# Altium schematic symbol library AltiumLibraries.SchLib: 565 symbols (part 3 of 5)
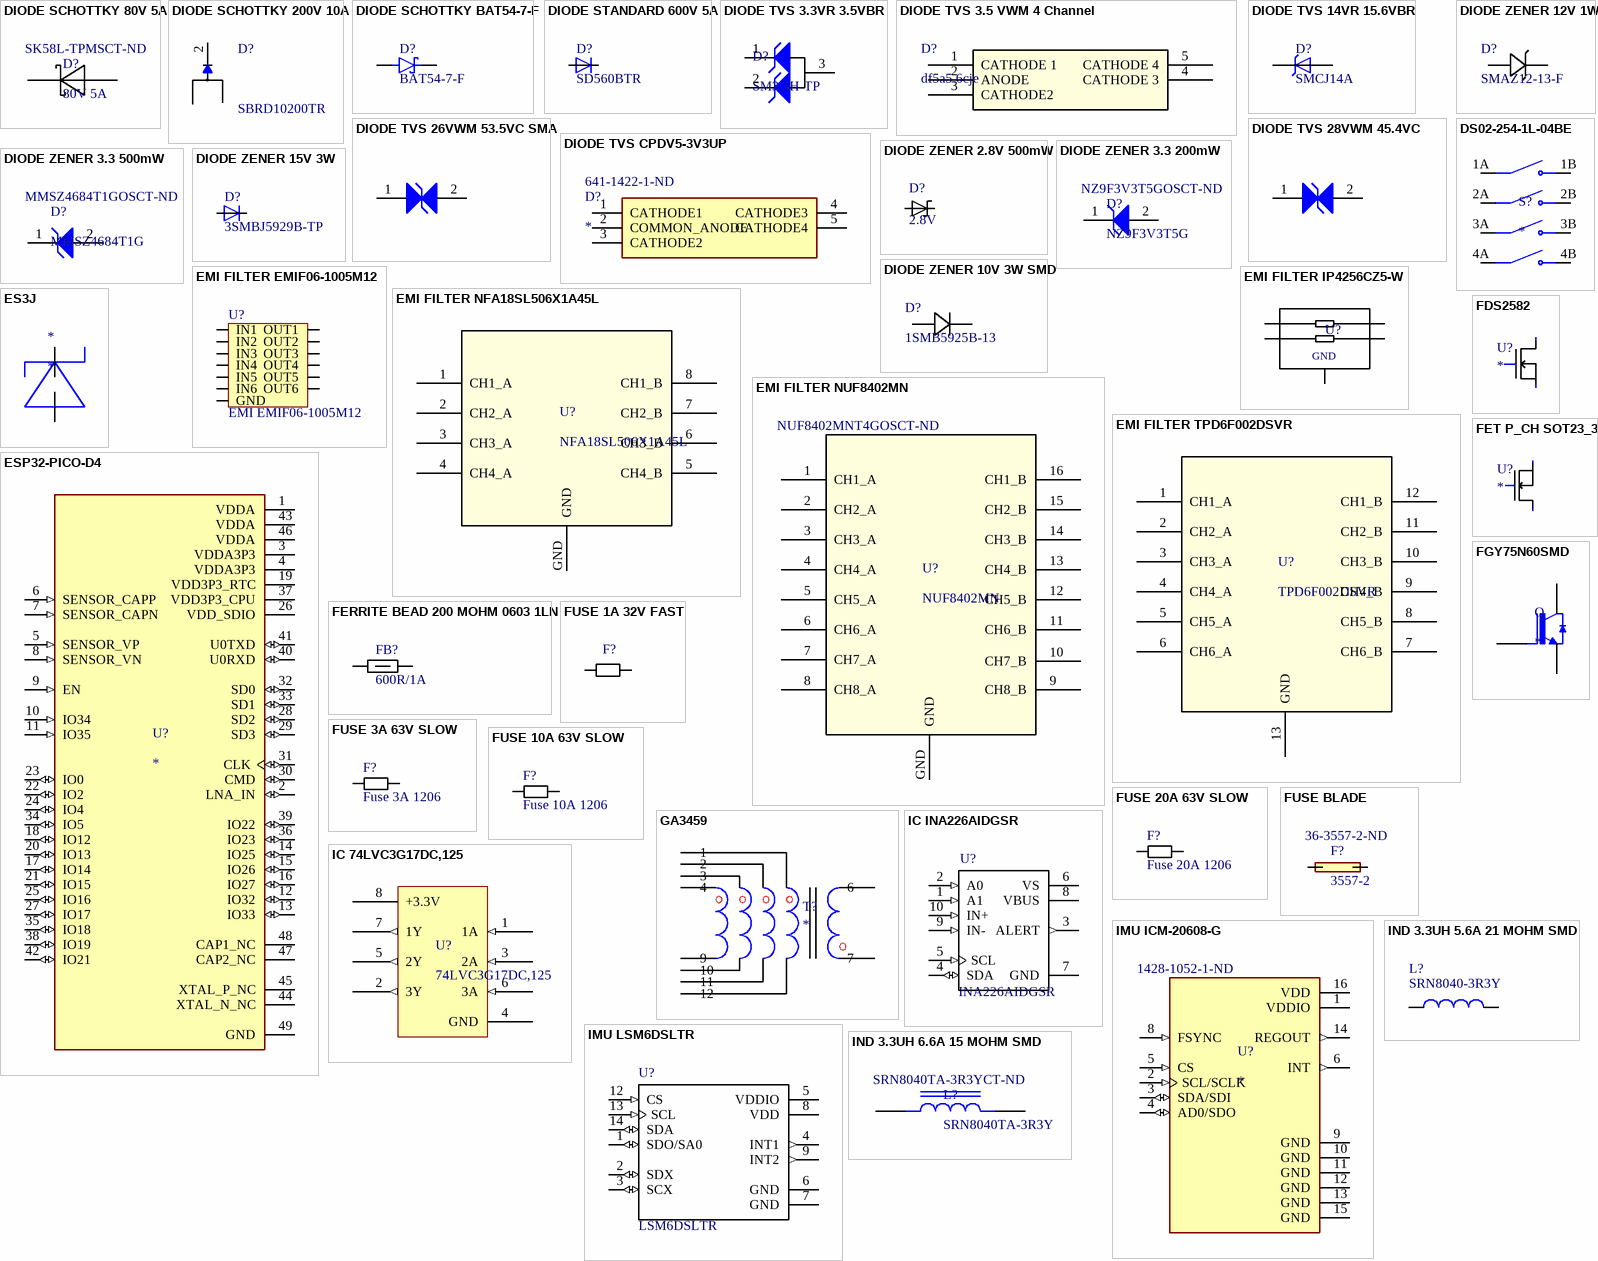
[diagram p17: symbols DIODE SCHOTTKY 80V 5A to IND 3.3UH 6.6A 15 MOHM SMD]

## IC INA226AIDGSR
designator U?, comment INA226AIDGSR
36-V, Bi-Directional, Ultra-High Accuracy, Low-/High-Side, I2C Out Current/Power Monitor w/ Alert 10-VSSOP -40 to 125; MF: Texas Instruments; Price: None; MP: INA226AIDGSR; SnapEDA_Link: https://www.snapeda.com/parts/INA226AIDGSR/Texas%20Instruments/view-part/53552/?ref=snap; Package: MSOP-10 Texas Instruments; Digikey: 296-29034-1-ND; Digikey Link: https://www.digikey.ca/product-detail/en/texas-instruments/INA226AIDGSR/296-29034-1-ND/2687118; Supplier 1: Digi-Key; Supplier Part Number 1: 296-29034-6-ND
footprint 10-VSSOP
pins: 1 A1 (in), 2 A0 (in), 3 ALERT (out), 4 SDA (io), 5 SCL (in), 6 VS (power), 7 GND (power), 8 VBUS (power), 9 IN- (in), 10 IN+ (in)

## IMU ICM-20608-G
designator U?  Supplier Part Number 1: 1428-1052-1-ND
Accelerometer, Gyroscope, 6 Axis Sensor IÂ²C, SPI Output; MF: TDK InvenSense; MP: ICM-20608-G; Package: LGA-16 InvenSense; Purchase-URL: https://pricing.snapeda.com/search/part/ICM-20608-G/?ref=eda; Value: *; Price: None; Availability: Good; SnapEDA_Link: https://www.snapeda.com/parts/ICM-20608-G/TDK%20InvenSense/view-part/196551/?ref=snap; Supplier 1: Digi-Key
footprint PQFN50P300X300X80-16N
pins: 1 VDDIO (power), 2 SCL/SCLK (in), 3 SDA/SDI (io), 4 AD0/SDO (io), 5 CS (in), 6 INT (out), 8 FSYNC (in), 9 GND (power), 10 GND (power), 11 GND (power), 12 GND (power), 13 GND (power), 14 REGOUT (out), 15 GND (power), 16 VDD (power)

## IMU LSM6DSLTR
designator U?, comment LSM6DSLTR
IMU ACCEL/GYRO I2C/SPI 14LGA; MF: STMicroelectronics; SnapEDA_Link: https://www.snapeda.com/parts/LSM6DSLTR/STMicroelectronics/view-part/550517/?ref=snap; MP: LSM6DSLTR; Package: LGA-14 STMicroelectronics; Digikey: https://www.digikey.ca/product-detail/en/stmicroelectronics/LSM6DSLTR/497-16705-1-ND/6192805; Supplier 1: Digi-Key; Supplier Part Number 1: 497-16705-1-ND
footprint LGA-14
pins: 1 SDO/SA0 (io), 2 SDX (io), 3 SCX (io), 4 INT1 (out), 5 VDDIO (power), 6 GND (power), 7 GND (power), 8 VDD (power), 9 INT2 (out), 12 CS (in), 13 SCL (in), 14 SDA (io)

## IND 3.3UH 5.6A 21 MOHM SMD
designator L?, comment SRN8040-3R3Y
3.3µH Semi-Shielded Wirewound Inductor 5.6A 21mOhm Max Nonstandard; MF: Bourns Inc.; Inductance: 3.3uH; MP: SRN8040-3R3Y; Price: None; Package: Nonstandard; ComponentLink1Description: digikey; ComponentLink1URL: https://www.digikey.ca/en/products/detail/bourns-inc/SRU1048-8R2Y/2352912; Digikey: SRN8040-3R3YCT-ND; Digikey Link: https://www.digikey.ca/en/products/detail/bourns-inc/SRN8040-3R3Y/2756131
footprint INDP8279X40M (Precision Wire Wound Inductor, 2-Leads, Body 8.15x7.90mm, IPC Low Density)
pins: 1, 2

## IND 3.3UH 6.6A 15 MOHM SMD
designator L?, comment SRN8040TA-3R3Y  Supplier Part Number 1: SRN8040TA-3R3YCT-ND
3.3 µH Inductor 6.6 A; Package: None; Price: None; Value: *; MP: SRN8040TA-3R3Y; Availability: Unavailable; Supplier 1: Digi-Key
footprint IND_SRN8040TA-3R3Y
pins: 1, 2

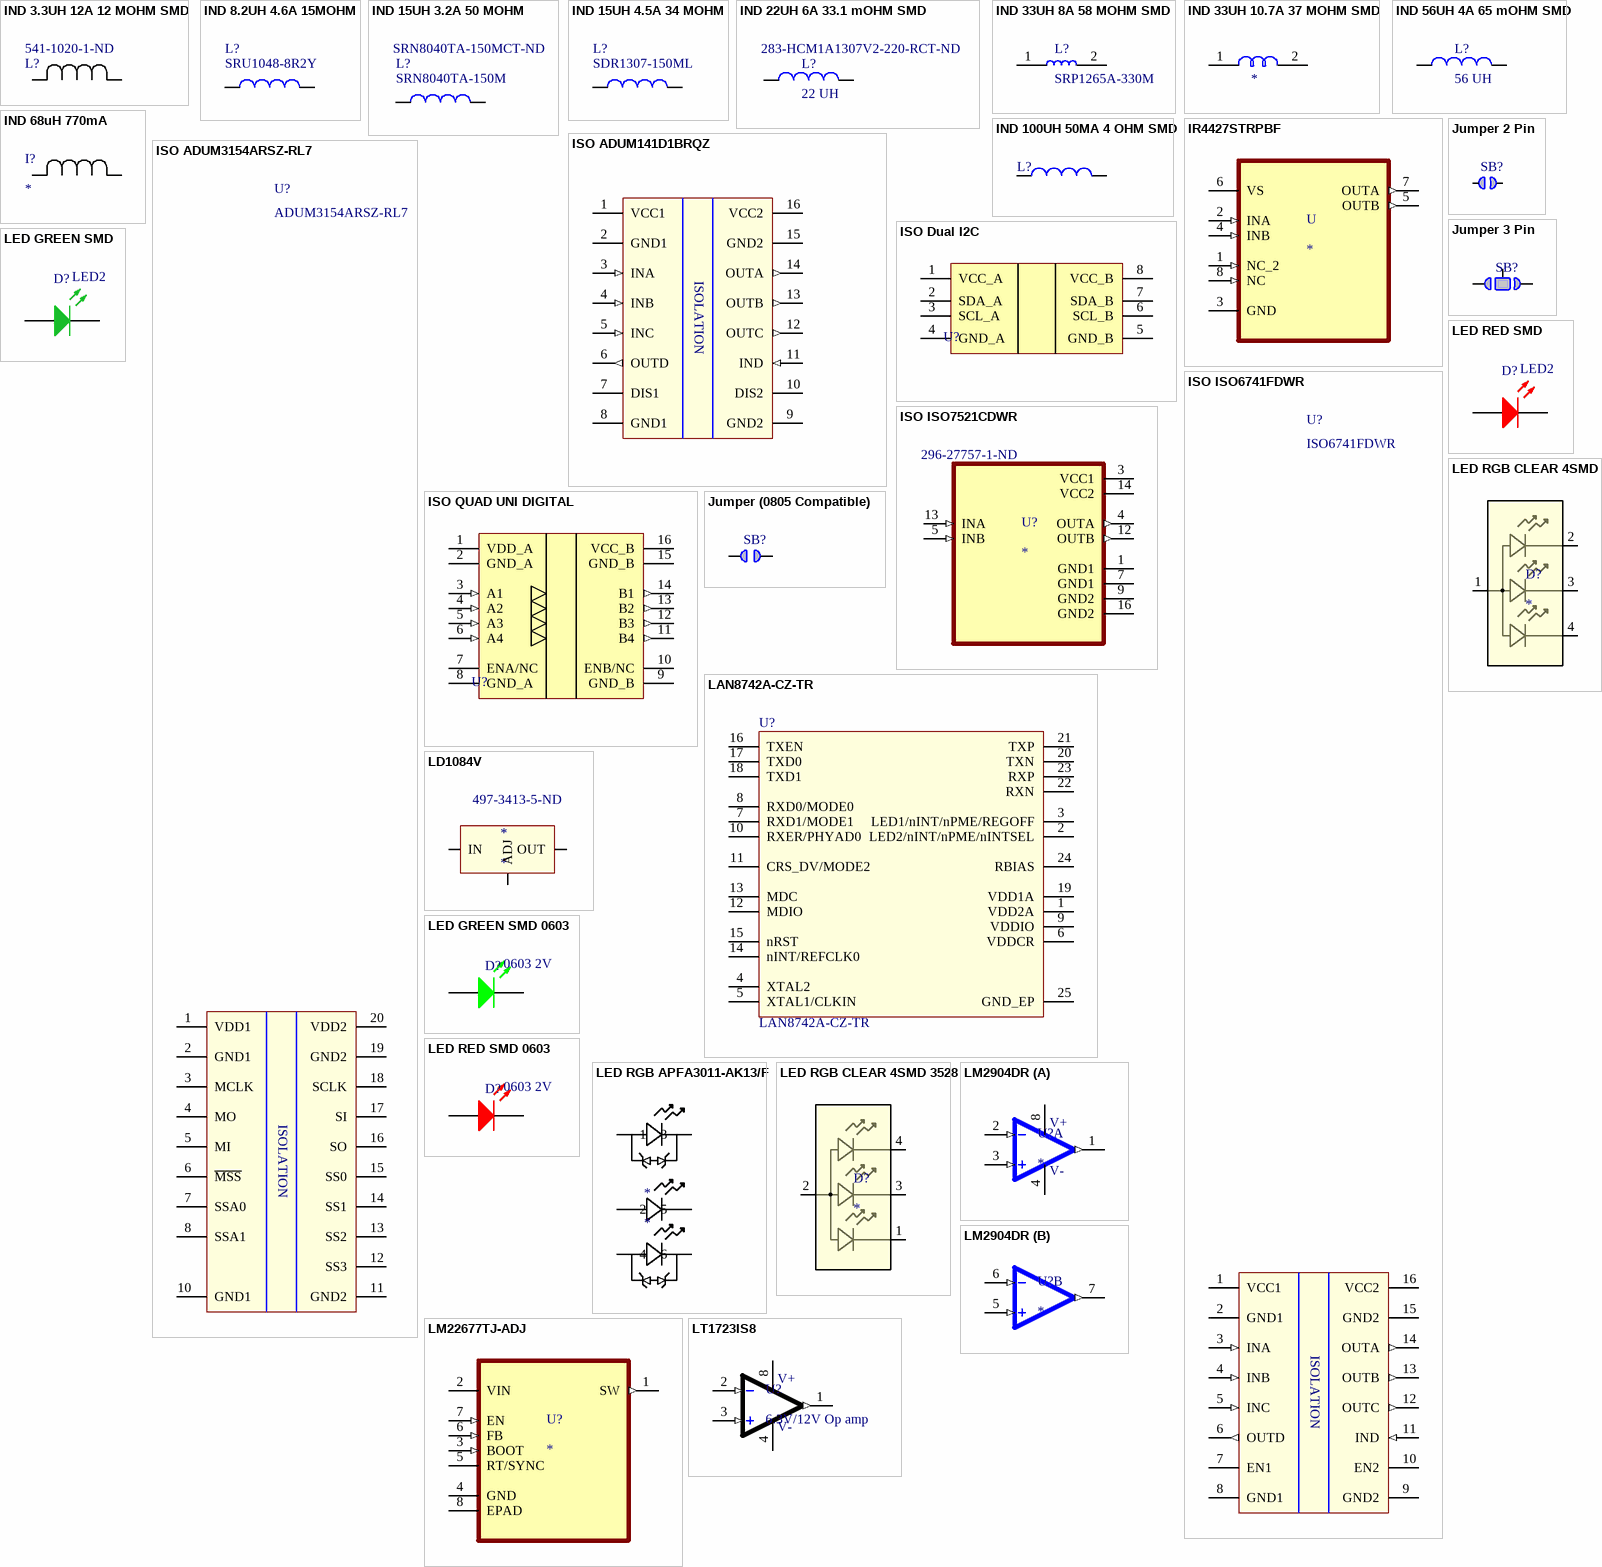
[diagram p6: symbols IND 3.3UH 12A 12 MOHM SMD to LT1723IS8]

## IND 3.3UH 12A 12 MOHM SMD
designator L?, comment Supplier Part Number 1: 541-1020-1-ND  (hidden comment: IHLP5050CEER3R3M01)
3.3uH 12A Shielded Molded Inductor 12mOhm Max; Mfr_Name: Vishay; Type: DEV; Copyright: Copyright (C) 2021 Ultra Librarian. All rights reserved.; Manufacturer_Part_Number: IHLP5050CEER3R3M01; Digi-Key_Part_Number_1: 541-1020-1-ND; Digi-Key_Part_Number_2: 541-1020-2-ND; Digi-Key_Part_Number_3: 541-1020-6-ND; RefDes: RefDes; Supplier 1: Digi-Key
footprint IND_IHLP-5050CE_VIS
pins: 1, 2

## IND 8.2UH 4.6A 15MOHM
designator L?, comment SRU1048-8R2Y
8.2µH Shielded Wirewound Inductor 4.6A 15mOhm Nonstandard; MF: Bourns Inc.; Value: 8.2uH; MP: SRU1048-8R2Y; Price: None; Package: Nonstandard; ComponentLink1Description: digikey; ComponentLink1URL: https://www.digikey.ca/en/products/detail/bourns-inc/SRU1048-8R2Y/2352912; Digikey: SRU1048-8R2YCT-ND; Digikey Link: https://www.digikey.ca/en/products/detail/bourns-inc/SRU1048-8R2Y/2352912
footprint SRU1048-8R2Y
pins: 1, 2

## IND 15UH 3.2A 50 MOHM
designator L?, comment SRN8040TA-150M  Supplier Part Number 1: SRN8040TA-150MCT-ND
15µH Semi-Shielded Wirewound Inductor 2.4A 70mOhm Max Nonstandard; MF: Bourns Inc.; Inductance: 15.0uH; Current - Saturation: 4A; DC Resistance (DCR): 50mOhm; MP: SRN8040TA-150M; Height - Seated (Max): 4.2mm; ComponentLink1Description: digikey; ComponentLink1URL: https://www.digikey.ca/en/products/detail/bourns-inc/SRU1048-8R2Y/2352912; Digikey: SRN8040TA-150MCT-ND; Digikey Link: https://www.digikey.ca/en/products/detail/bourns-inc/SRN8040TA-150M/6155130; Operating Temperature: -40°C ~ 125°C; Size / Dimension: 0.512"" L x 0.512"" W (13.00mm x 13.00mm); Supplier 1: Digi-Key
footprint INDP8279X40M (Precision Wire Wound Inductor, 2-Leads, Body 8.15x7.90mm, IPC Low Density)
pins: 1, 2

## IND 15UH 4.5A 34 MOHM
designator L?, comment SDR1307-150ML
15µH Unshielded Wirewound Inductor 4.5A 34mOhm Max Nonstandard; MF: Bourns Inc.; Inductance: 15.0uH; Current - Saturation: 7.5A; MP: SDR1307-150ML; Height - Seated (Max): 0.287"" (7.30mm); ComponentLink1Description: digikey; ComponentLink1URL: https://www.digikey.ca/en/products/detail/bourns-inc/SRU1048-8R2Y/2352912; Digikey: SDR1307-150MLCT-ND; Digikey Link: https://www.digikey.ca/en/products/detail/bourns-inc/SDR1307-150ML/2561929; DC Resistance (DCR): 34mOhm; Operating Temperature: -40°C ~ 125°C; Size / Dimension: 0.512"" L x 0.512"" W (13.00mm x 13.00mm)
footprint INDP130130X73M (Precision Wire Wound Inductor, 2-Leads, Body 13.00x13.00mm, IPC Low Density)
pins: 1, 2

## IND 22UH 6A 33.1 mOHM SMD
designator L?, comment 22 UH  Supplier Part Number 1: 283-HCM1A1307V2-220-RCT-ND
Automotive Grade High Current Power Inductor 22uH 6A 28.8mOhm 5MHz SRF 2-Pin Surface Mount T/R; Manufacturer: Eaton; Manufacturer Part Number: HCM1A1307V2-220-R; Supplier 1: Digi-Key; RoHS: Yes; Category: Fixed Inductors; Stock 1: 504; Pricing 1: 1=2.16000, 10=1.99600, 25=1.82960, 50=1.56340, 100=1.39710 (USD)
footprint EATON _HCM1A1307V2-220-R (FIXED IND 22UH 6A 33.1 mOHM SMD)
pins: 1, 2

## IND 33UH 8A 58 MOHM SMD
designator L?, comment SRP1265A-330M
33µH Shielded Wirewound Inductor 8A 58mOhm Max Nonstandard; MF: Bourns; SnapEDA_Link: https://www.snapeda.com/parts/SRP1265A-330M/Bourns/view-part/55645/?ref=snap; Availability: Unavailable; Value: *; Package: 1008 Bourns; MP: SRP1265A-330M; Price: None; Supplier 1: Digi-Key; Supplier 2: Newark; Supplier 3: Mouser
footprint IND_SRP1265A-330M
pins: 1, 2

## IND 33UH 10.7A 37 MOHM SMD
designator ?
33µH Shielded Molded Inductor 10.7A 37mOhm; MP: IHLP6767GZER330M11; MF: Vishay Dale; SnapEDA_Link: https://www.snapeda.com/parts/IHLP6767GZER330M11/Vishay%20Dale/view-part/273647/?ref=snap; Digi-Key_Purchase_URL: https://www.digikey.com/product-detail/en/vishay-dale/IHLP6767GZER330M11/541-1289-1-ND/2139415?utm_source=snapeda&utm_medium=aggregator&utm_campaign=symbol; Value: *; Package: Nonstandard Vishay Dale; Digi-Key_Part_Number: 541-1289-1-ND; Supplier 1: Digi-Key; Supplier Part Number 1: 541-1289-1-ND
footprint ER-2
pins: 1, 2

## IND 56UH 4A 65 mOHM SMD
designator L?, comment 56 UH
FIXED IND 56UH 4A 65 MOHM SMD Shielded - Inductor 65mOhm Max Nonstandard -; Value: 56 µH; Digi-Key Part Number: 283-HCM1A1307V2-560-RTR-ND; Current Rating: 4A; DC Resistance: 65mOhm; Supplier 1: Digi-Key; Supplier Part Number 1: 283-HCM1A1307V2-560-RCT-ND
footprint EATON _HCM1A1307V2-560-R (FIXED IND 56UH 4A 65 mOHM SMD)
pins: 1, 2

## IND 68uH 770mA
designator I?
footprint IND 68uH
pins: 1, 2

## IND 100UH 50MA 4 OHM SMD
designator L?
100µH Unshielded Wirewound Inductor 50mA 4Ohm 0805 (2012 Metric); Value: 100uH; MF: Taiyo Yuden; MP: LBR2012T101K; Revision: July-2002: Re-released for DXP Platform.; Digikey: 587-2048-1-ND; Digikey Link: https://www.digikey.ca/product-detail/en/taiyo-yuden/LBR2012T101K/587-2048-1-ND/1788995; Supplier 1: Digi-Key; Supplier Part Number 1: 587-4040-1-ND
footprint 0805
pins: 1, 2

## IR4427STRPBF
designator U
Low-Side Gate Driver IC Non-Inverting 8-SOIC; MF: Infineon Technologies; MP: IR4427STRPBF; Package: SOIC-8 Infineon; Price: None; Availability: Unavailable; SnapEDA_Link: https://www.snapeda.com/parts/IR4427STRPBF/Infineon%20Technologies/view-part/1815787/?ref=snap; Value: *; Supplier 1: Digi-Key; Supplier Part Number 1: IR4427SPBFCT-ND
footprint 8-SOIC
pins: 1 NC_2 (in), 2 INA (in), 3 GND, 4 INB (in), 5 OUTB (out), 6 VS (power), 7 OUTA (out), 8 NC (in)

## ISO ADUM141D1BRQZ
designator U?, comment ADUM141D1BRQZ  Supplier Part Number 1: ADUM141D1BRQZ-RL7
Digital Isolator CMOS 4-CH 150Mbps 16-Pin QSOP T/R; Manufacturer: Analog Devices; Isolated Power: No; Number of Channels: 4; Channel Type: Unidirectional; Propagation Delay: 13ns; Pulse Width Distortion (PWD): 3ns; Supplier 1: Arrow Electronics; Manufacturer Part Number: ADUM141D1BRQZ-RL7; RoHS: Yes; Category: Interface ICs; Stock 1: 341; Pricing 1: 1=3.87700, 10=3.47000, 25=3.26100, 50=3.22900, 100=2.78500, 250=2.67500 (USD); Mount: Surface Mount; Case/Package: SSOP; Number of Pins: 16; Min Operating Temperature: -40°C; Max Operating Temperature: 125°C; Type: General Purpose; Packaging: Tape and Reel; Data Rate: 150Mbps; RoHS Compliant: Yes; ComponentLink1URL: https://www.analog.com/media/en/technical-documentation/data-sheets/ADuM140D_140E_141D_141E_142D_142E.pdf?src-supplier=Digi-Key; ComponentLink1Description: https://www.analog.com/media/en/technical-documentation/data-sheets/ADuM140D_140E_141D_141E_142D_142E.pdf?src-supplier=Digi-Key
footprint SOP64P600X175-16N (SOP, 16-Leads, Body 4.90x3.91mm, Pitch 0.64mm, IPC Medium Density)
footprint SOP64P600X175-16M (SOP, 16-Leads, Body 4.90x3.91mm, Pitch 0.64mm, IPC Low Density)
pins: 1 VCC1 (power), 2 GND1 (power), 3 INA (in), 4 INB (in), 5 INC (in), 6 OUTD (out), 7 DIS1, 8 GND1 (power), 9 GND2 (power), 10 DIS2, 11 IND (in), 12 OUTC (out), 13 OUTB (out), 14 OUTA (out), 15 GND2 (power), 16 VCC2 (power)
text: ISOLATION

## ISO ADUM3154ARSZ-RL7
designator U?, comment ADUM3154ARSZ-RL7
DGTL ISO 3.75KV 4CH SPI 20SSOP; Manufacturer: Analog Devices; Number of Channels: 4; Channel Type: Unidirectional; Data Rate: 34Mbps; Propagation Delay: 25ns; Max Supply Voltage: 5.5V; Min Supply Voltage: 3V; Operating Supply Current: 6.5mA; Max Power Dissipation: 1.4W; Isolated Power: No; Pulse Width Distortion (PWD): 2ns; Supplier 1: Digi-Key; Manufacturer Part Number: ADUM3154ARSZ-RL7; RoHS: Yes; Category: Interface ICs; Stock 1: 226; Pricing 1: 1=6.07000, 10=5.44900, 25=5.15160, 100=4.46470, 250=4.23576 (USD); Mount: Surface Mount; Case/Package: SSOP; Number of Pins: 20; Weight: 0.016oz; Contact Plating: Tin,Matte; Min Operating Temperature: -40°C; Max Operating Temperature: 125°C; Packaging: Tape and Reel; Polarity: Unidirectional; Turn-On Delay Time: 25ns; Package Quantity: 500; Lead Free: Contains Lead; RoHS Compliant: Yes; ComponentLink1URL: https://datasheet.ciiva.com/48509/adum3154-48509240.pdf?src-supplier=Avnet; ComponentLink1Description: https://datasheet.ciiva.com/48509/adum3154-48509240.pdf?src-supplier=Avnet; Supplier Part Number 1: ADUM3154ARSZ-RL7CT-ND
footprint 20-SSOP
pins: 1 VDD1, 2 GND1, 3 MCLK, 4 MO, 5 MI, 6 ~{MSS}, 7 SSA0, 8 SSA1, 10 GND1, 11 GND2, 12 SS3, 13 SS2, 14 SS1, 15 SS0, 16 SO, 17 SI, 18 SCLK, 19 GND2, 20 VDD2
text: ISOLATION

## ISO Dual I2C
designator U?
Digital Isolation Dual Ch Bidirectional I2C; Revision: 1
footprint SOIC127P600X175-8N (SOIC, 8-Leads, Body 4.91x3.95mm, Pitch 1.27mm, IPC Medium Density)
pins: 1 VCC_A, 2 SDA_A, 3 SCL_A, 4 GND_A, 5 GND_B, 6 SCL_B, 7 SDA_B, 8 VCC_B

## ISO ISO6741FDWR
designator U?, comment ISO6741FDWR
ISO GENERAL-PURPOSE, QUAD-CHANNEL, 3/1; Manufacturer: Texas Instruments; Supplier 1: Digi-Key; Manufacturer Part Number: ISO6741FDWR; RoHS: Yes; Category: Integrated Circuits (ICs); Stock 1: 1835; Pricing 1: 1=2.82000, 10=2.53000, 25=2.39200, 100=2.07320, 250=1.96688, 500=1.76488, 1000=1.75525 (USD); RoHS Compliant: Yes; Supplier Part Number 1: 296-ISO6741FDWRCT-ND
footprint 16-SOIC
pins: 1 VCC1 (power), 2 GND1 (power), 3 INA (in), 4 INB (in), 5 INC (in), 6 OUTD (out), 7 EN1, 8 GND1 (power), 9 GND2 (power), 10 EN2, 11 IND (in), 12 OUTC (out), 13 OUTB (out), 14 OUTA (out), 15 GND2 (power), 16 VCC2 (power)
text: ISOLATION

## ISO ISO7521CDWR
designator U?  Supplier Part Number 1: 296-27757-1-ND
General Purpose Digital Isolator 4243Vrms 2 Channel 1Mbps 25kV/µs CMTI 16-SOIC (0.295", 7.50mm Width); MP: ISO7521CDWR; Package: None; Price: None; Value: *; Availability: Unavailable; Supplier 1: Digi-Key
footprint SOIC127P1030X265-16N
pins: 1 GND1 (power), 3 VCC1 (power), 4 OUTA (out), 5 INB (in), 7 GND1 (power), 9 GND2 (power), 12 OUTB (out), 13 INA (in), 14 VCC2 (power), 16 GND2 (power)

## ISO QUAD UNI DIGITAL
designator U?
Digital Isolation Quad Channel.; Revision: 1
footprint SOIC127P600X175-16N (SOIC, 16-Leads, Body 9.90x3.90mm, Pitch 1.27mm, IPC Medium Density)
pins: 1 VDD_A (power), 2 GND_A (power), 3 A1 (in), 4 A2 (in), 5 A3 (in), 6 A4 (in), 7 ENA/NC, 8 GND_A (power), 9 GND_B (power), 10 ENB/NC, 11 B4 (out), 12 B3 (out), 13 B2 (out), 14 B1 (out), 15 GND_B (power), 16 VCC_B (power)

## Jumper 2 Pin
designator SB?  (value not drawn)  (no BOM)
footprint Solder Jumper - 2 PIN NO (Solder jumper 2 pin)
pins: 1, 2

## Jumper 3 Pin
designator SB?  (value not drawn)  (no BOM)
footprint Solder Jumper - 3 Pin NO (Solder jumper, Normally Open)
pins: 1, 2, 3

## Jumper (0805 Compatible)
designator SB?  (value not drawn)  (no BOM)
footprint Solder Jumper (Solder jumper compatible with 0805 passives)
pins: 1, 2

## LAN8742A-CZ-TR
designator U?
LAN8742A-CZ-TR - Small Footprint RMII 10/100 Ethernet, Transceiver with HP Auto-MDIX and flexPWR Technology SQFN-24; MF: Microchip Technology; MP: LAN8742A-CZ-TR; Digikey: LAN8742A-CZ-CT-ND; Digikey Link: https://www.digikey.ca/product-detail/en/microchip-technology/LAN8742A-CZ-TR/LAN8742A-CZ-CT-ND/8256089; Supplier 1: Digi-Key; Supplier Part Number 1: LAN8742A-CZ-CT-ND
footprint 24-QFN (4x4)
pins: 1 VDD2A, 2 LED2/nINT/nPME/nINTSEL, 3 LED1/nINT/nPME/REGOFF, 4 XTAL2, 5 XTAL1/CLKIN, 6 VDDCR, 7 RXD1/MODE1, 8 RXD0/MODE0, 9 VDDIO, 10 RXER/PHYAD0, 11 CRS_DV/MODE2, 12 MDIO, 13 MDC, 14 nINT/REFCLK0, 15 nRST, 16 TXEN, 17 TXD0, 18 TXD1, 19 VDD1A, 20 TXN, 21 TXP, 22 RXN, 23 RXP, 24 RBIAS, 25 GND_EP

## LD1084V
designator *  Supplier Part Number 1: 497-3413-5-ND
STMICROELECTRONICS         LD1084V            LDO Voltage Regulator, Adjustable, 30V in, 1.3V drop, 5A out, TO-220-3; Interface: SPI,Serial; Access Time: 60ns; Output Voltage: 28V; Number of Outputs: 1; Output Voltage Accuracy: 1%; Max Frequency: 5MHz; Input Bias Current: 5mA; Reference Voltage: 1.25V; Polarity: Positive; Quiescent Current: 10mA; Min Output Voltage: 2.5V; Density: 128Kb; Min Input Voltage: 4.25V; Supplier 1: Digi-Key; Manufacturer: STMicroelectronics; Manufacturer Part Number: LD1084V; RoHS: Yes; Category: Voltage Regulators - Linear; Stock 1: 3520; Pricing 1: 1=1.30000, 10=1.16200, 25=1.10320, 100=0.84710, 250=0.74860, 500=0.70920, 1000=0.55160, 2500=0.52402, 5000=0.50432 (USD); Mount: Through Hole; Case/Package: TO; Number of Pins: 3; Min Operating Temperature: -40°C; Max Operating Temperature: 125°C; Dropout Voltage: 1.3V; Package Quantity: 50; Max Input Voltage: 30V; Output Current: 5A; Packaging: Rail/Tube; Max Output Current: 5A; Number of Regulators: 1; Output Type: Adjustable; Accuracy: 1%; Length: 10.4mm; Height: 9.15mm; Width: 4.6mm; Radiation Hardening: No; REACH SVHC: No SVHC; Lead Free: Lead Free; ComponentLink1URL: https://datasheet.ciiva.com/15111/getdatasheetpartid-64852-15111283.pdf?src-supplier=Verical; ComponentLink1Description: https://datasheet.ciiva.com/15111/getdatasheetpartid-64852-15111283.pdf?src-supplier=Verical; ComponentLink2URL: https://datasheet.ciiva.com/27052/1390160-27052164.pdf?src-supplier=Jameco; ComponentLink2Description: https://datasheet.ciiva.com/27052/1390160-27052164.pdf?src-supplier=Jameco; ComponentLink3URL: https://datasheet.ciiva.com/1511/1786011-1511541.pdf?src-supplier=Element14; ComponentLink3Description: https://datasheet.ciiva.com/1511/1786011-1511541.pdf?src-supplier=Element14; ComponentLink4URL: https://datasheet.ciiva.com/16496/cd00003086-16496021.pdf?src-supplier=Future+Electronics; ComponentLink4Description: https://datasheet.ciiva.com/16496/cd00003086-16496021.pdf?src-supplier=Future+Electronics; ComponentLink5URL: https://datasheet.ciiva.com/2045/cd00003086-2045335.pdf?src-supplier=Digi-Key; ComponentLink5Description: https://datasheet.ciiva.com/2045/cd00003086-2045335.pdf?src-supplier=Digi-Key
footprint TO-220-3
pins: 1 IN, 2 ADJ, 3 OUT

## LED GREEN SMD
designator D?, comment LED2
Typical RED, GREEN, YELLOW, AMBER GaAs LED; Voltage - Forward (Vf) (Typ): 2V; Lens Transparency: Clear; Current - Test: 20mA; Package: 1206; Color: Green
footprint 3.2X1.6X1.1 (SMT LED; 2 Flat Leads)
pins: 1 A, 2 K

## LED GREEN SMD 0603
designator D?, comment 0603 2V
LED Uni-Color Green 574nm 2-Pin Chip LED T/R; Manufacturer: Vishay Lite-On; Manufacturer Part Number: LTST-C190KGKT; Lens Color: Colorless; Lens Style: Diffused,Colorless,Rectangular,Clear; Luminous Intensity: 35mcd; Viewing Angle: 130°; Dominant Wavelength: 571nm; Test Current: 20mA; Lens Transparency: Clear; Forward Current: 30mA; Power Rating: 75mW; Number of Elements: 1; Reverse Voltage: 5V; Supplier 1: Digi-Key; RoHS: Yes; Category: LEDs; Stock 1: 927689; Pricing 1: 1=0.24000, 10=0.13200, 100=0.06110, 500=0.05640, 1000=0.04418, 2000=0.04324 (USD); Mount: Surface Mount; Case/Package: 0603; Number of Pins: 2; Color: Green; Case Code (Metric): 1608; Case Code (Imperial): 0603; Min Operating Temperature: -55°C; Max Operating Temperature: 85°C; Forward Voltage: 2V; Packaging: Tape and Reel; Package Quantity: 1; Wavelength: 574nm; Illumination Color: Green; Power Dissipation: 75mW; Number of LEDs: 1; Length: 1.6mm; Width: 0.8mm; Height: 0.8mm; Depth: 0.8mm; Radiation Hardening: No; Lead Free: Lead Free; RoHS Compliant: Yes; ComponentLink1URL: https://datasheet.ciiva.com/11774/0900766b80dc02a8-11774060.pdf?src-supplier=RSComponents; ComponentLink1Description: https://datasheet.ciiva.com/11774/0900766b80dc02a8-11774060.pdf?src-supplier=RSComponents; ComponentLink2URL: https://datasheet.ciiva.com/12403/100-ltst-c190kgkt-63268-12403899.pdf?src-supplier=Mouser; ComponentLink2Description: https://datasheet.ciiva.com/12403/100-ltst-c190kgkt-63268-12403899.pdf?src-supplier=Mouser; ComponentLink3URL: https://datasheet.ciiva.com/15117/getdatasheetpartid-141494-15117731.pdf?src-supplier=Verical; ComponentLink3Description: https://datasheet.ciiva.com/15117/getdatasheetpartid-141494-15117731.pdf?src-supplier=Verical; ComponentLink4URL: https://datasheet.ciiva.com/2109/s-110-ltst-c190kgkt-2109989.pdf?src-supplier=Digi-Key; ComponentLink4Description: https://datasheet.ciiva.com/2109/s-110-ltst-c190kgkt-2109989.pdf?src-supplier=Digi-Key; ComponentLink5URL: https://datasheet.ciiva.com/2109/s-110-ltst-c190kgkt-2109988.pdf?src-supplier=Digi-Key; ComponentLink5Description: https://datasheet.ciiva.com/2109/s-110-ltst-c190kgkt-2109988.pdf?src-supplier=Digi-Key; ComponentLink6URL: https://datasheet.ciiva.com/2109/s-110-ltst-c190kgkt-2109990.pdf?src-supplier=Digi-Key; ComponentLink6Description: https://datasheet.ciiva.com/2109/s-110-ltst-c190kgkt-2109990.pdf?src-supplier=Digi-Key; Supplier Part Number 1: 160-1435-1-ND
footprint 0603 - LED
pins: 1 A, 2 K

## LED RED SMD
designator D?, comment LED2
Typical RED, GREEN, YELLOW, AMBER GaAs LED; Lens Color: Colorless; Voltage - Forward (Vf) (Typ): 1.7V; Current - Test: 20mA; Lens Transparency: Clear; Color: Red; Package: 1206
footprint 3.2X1.6X1.1 (SMT LED; 2 Flat Leads)
pins: 1 A, 2 K

## LED RED SMD 0603
designator D?, comment 0603 2V
0603 red led alingap 631nm-639nm water clear 18-180mcd 130d; Manufacturer: Vishay Lite-On; Manufacturer Part Number: LTST-C190KRKT; Lens Color: Colorless; Luminous Intensity: 54mcd; Forward Current: 30mA; Viewing Angle: 130°; Forward Voltage: 2.4V; Lens Style: Diffused,Colorless,Clear,Rectangular; Power Rating: 75mW; Dominant Wavelength: 631nm; Test Current: 20mA; Number of Elements: 1; Wavelength: 639nm; Reverse Voltage: 5V; Supplier 1: Digi-Key; RoHS: Yes; Category: LEDs; Stock 1: 952868; Pricing 1: 1=0.24000, 10=0.13200, 100=0.06110, 500=0.05640, 1000=0.04418, 2000=0.04324 (USD); Mount: Surface Mount; Case/Package: 0603; Number of Pins: 2; Color: Red; Case Code (Metric): 1608; Case Code (Imperial): 0603; Min Operating Temperature: -55°C; Max Operating Temperature: 85°C; Packaging: Tape and Reel; Package Quantity: 1; Illumination Color: Red; Lens Transparency: Clear; Power Dissipation: 75mW; Number of LEDs: 1; Length: 1.6mm; Width: 0.8mm; Height: 0.8mm; Depth: 0.8mm; Radiation Hardening: No; Lead Free: Lead Free; RoHS Compliant: Yes; ComponentLink1URL: https://datasheet.ciiva.com/19482/1260381-19482354.pdf?src-supplier=Jameco; ComponentLink1Description: https://datasheet.ciiva.com/19482/1260381-19482354.pdf?src-supplier=Jameco; ComponentLink2URL: https://datasheet.ciiva.com/11774/0900766b80dc02a9-11774043.pdf?src-supplier=RSComponents; ComponentLink2Description: https://datasheet.ciiva.com/11774/0900766b80dc02a9-11774043.pdf?src-supplier=RSComponents; ComponentLink3URL: https://datasheet.ciiva.com/12403/100-ltst-c190krkt-59805-12403895.pdf?src-supplier=Mouser; ComponentLink3Description: https://datasheet.ciiva.com/12403/100-ltst-c190krkt-59805-12403895.pdf?src-supplier=Mouser; ComponentLink4URL: https://datasheet.ciiva.com/16427/ltst-c190krkt-16427674.pdf?src-supplier=Future+Electronics; ComponentLink4Description: https://datasheet.ciiva.com/16427/ltst-c190krkt-16427674.pdf?src-supplier=Future+Electronics; ComponentLink5URL: https://datasheet.ciiva.com/15117/getdatasheetpartid-57395-15117240.pdf?src-supplier=Verical; ComponentLink5Description: https://datasheet.ciiva.com/15117/getdatasheetpartid-57395-15117240.pdf?src-supplier=Verical; ComponentLink6URL: https://datasheet.ciiva.com/2109/s-110-ltst-c190krkt-2109992.pdf?src-supplier=Digi-Key; ComponentLink6Description: https://datasheet.ciiva.com/2109/s-110-ltst-c190krkt-2109992.pdf?src-supplier=Digi-Key; ComponentLink7URL: https://datasheet.ciiva.com/2109/s-110-ltst-c190krkt-2109991.pdf?src-supplier=Digi-Key; ComponentLink7Description: https://datasheet.ciiva.com/2109/s-110-ltst-c190krkt-2109991.pdf?src-supplier=Digi-Key; ComponentLink8URL: https://datasheet.ciiva.com/2109/s-110-ltst-c190krkt-2109993.pdf?src-supplier=Digi-Key; ComponentLink8Description: https://datasheet.ciiva.com/2109/s-110-ltst-c190krkt-2109993.pdf?src-supplier=Digi-Key; ComponentLink9URL: https://datasheet.ciiva.com/26937/getdatasheetpartid-631582-26937958.pdf?src-supplier=Verical; ComponentLink9Description: https://datasheet.ciiva.com/26937/getdatasheetpartid-631582-26937958.pdf?src-supplier=Verical; Supplier Part Number 1: 160-1436-1-ND
footprint 0603 - LED2
pins: 1 A, 2 K

## LED RGB APFA3011-AK13/F
designator *
ComponentLink1Description: Digikey; ComponentLink1URL: https://www.digikey.com/en/products/detail/kingbright/APFA3011-AK13-F/7597102
footprint LED RGB APFA3011-AK13/F
pins: 1, 2, 3, 4, 5, 6

## LED RGB CLEAR 4SMD
designator D?
LED RGB No Lead
footprint LED RGB APHF1608SEEQBDZGKC_KNB-L
pins: 1, 2, 3, 4

## LED RGB CLEAR 4SMD 3528
designator D?
LED RGB No Lead / AAA3528
footprint LED 4pin 3.5 x 2.8 (LED 3 COLOR 3.5mm x 2.8mm)
pins: 1, 2, 3, 4

## LM2904DR
designator U?
General Purpose Amplifier 2 Circuit 8-SOIC; MF: Texas Instruments; MP: LM2904DR; Package: SOIC-8 Texas Instruments; Availability: Unavailable; Value: *; SnapEDA_Link: https://www.snapeda.com/parts/LM2904DR/Texas%20Instruments/view-part/105730/?ref=snap; Price: None; Supplier 1: Digi-Key; Supplier Part Number 1: 296-14596-1-ND
footprint 8-SOIC
part A pins: 1 OUT1 (out), 2 IN1- (in), 3 IN1+ (in), 4 V- (power), 8 V+ (power)
part B pins: 5 IN2+ (in), 6 IN2- (in), 7 OUT2 (out)

## LM22677TJ-ADJ
designator U?
3A SIMPLE SWITCHERÂ®, Step-Down Voltage Regulator; MP: LM22677TJ-ADJ; Package: None; Price: None; Value: *; Availability: Unavailable
footprint TO127P1435X210-8N
pins: 1 SW (out), 2 VIN (power), 3 BOOT (in), 4 GND, 5 RT/SYNC, 6 FB (in), 7 EN (in), 8 EPAD

## LT1723IS8
designator U?, comment 6.3V/12V Op amp
IC OPAMP VFB 200MHZ 8SO; Manufacturer: Analog Devices / Linear Technology; Manufacturer Part Number: LT1723IS8#PBF; Min Dual Supply Voltage: 1.15V; Operating Supply Voltage: 3V; Max Dual Supply Voltage: 6.3V; Voltage Gain: 80dB; Slew Rate: 70V/µs; Max Supply Voltage: 12.6V; Min Supply Voltage: 4.6V; Number of Circuits: 2; Input Bias Current: 40nA; Input Offset Voltage (Vos): 400uV; Operating Supply Current: 3.7mA; Output Current per Channel: 50mA; Power Supply Rejection Ratio (PSRR): 78dB; Max Supply Current: 10mA; Supplier 1: Digi-Key; RoHS: Yes; Category: Amplifiers - Op Amps, Buffer, Instrumentation; Stock 1: 290; Case/Package: SOIC; Number of Pins: 8; Min Operating Temperature: -40°C; Max Operating Temperature: 85°C; Package Quantity: 100; Dual Supply Voltage: 3V; Common Mode Rejection Ratio: 80dB; Packaging: Rail/Tube; Nominal Gain Bandwidth Product: 200MHz; Gain Bandwidth Product: 200MHz; Number of Elements: 2; Number of Channels: 2; Length: 5mm; Height: 1.5mm; Width: 3.99mm; Lead Free: Lead Free; ComponentLink1URL: https://datasheet.ciiva.com/19464/1739931-19464951.pdf?src-supplier=Jameco; ComponentLink1Description: https://datasheet.ciiva.com/19464/1739931-19464951.pdf?src-supplier=Jameco; ComponentLink2URL: https://datasheet.ciiva.com/1802/1627-1802924.pdf?src-supplier=Digi-Key; ComponentLink2Description: https://datasheet.ciiva.com/1802/1627-1802924.pdf?src-supplier=Digi-Key; Supplier Part Number 1: LT1723IS8#PBF-ND
footprint 8-SOIC
pins: 1 OUT1 (out), 2 IN1- (in), 3 IN1+ (in), 4 V- (power), 8 V+ (power)

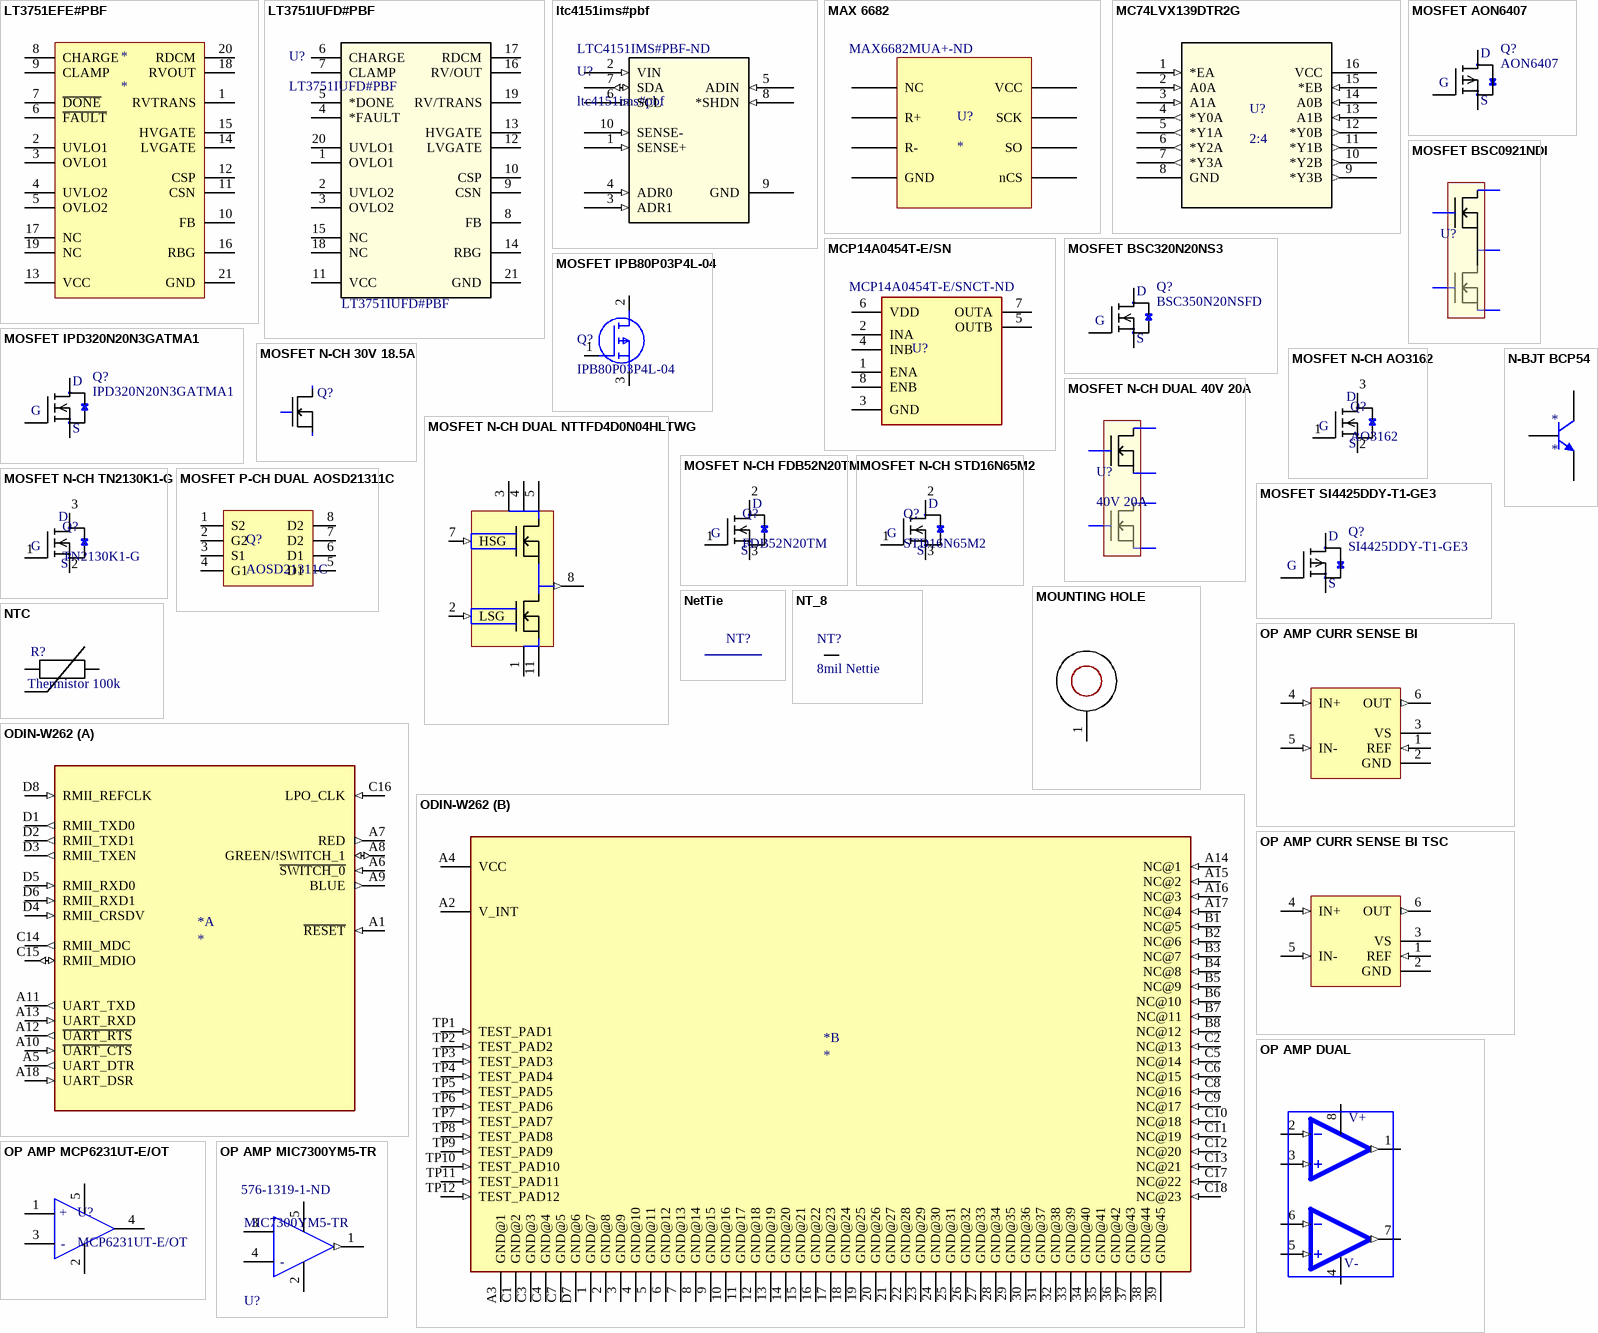
[diagram p7: symbols LT3751EFE#PBF to OP AMP MIC7300YM5-TR]

## LT3751EFE#PBF
designator *
Controller to 20-Pin TSSOP EP; Manufacturer: Analog Devices / Linear Technology; Manufacturer Part Number: LT3751EFE#PBF; Output Voltage: 500V; Output Current: 150mA; Max Input Voltage: 24V; Min Supply Voltage: 4.75V; Number of Outputs: 1; Operating Supply Current: 5.5mA; Supplier 1: Digi-Key; RoHS: Yes; Category: Voltage Regulators - Switching; Stock 1: 1231; Pricing 1: 1=9.26000, 25=6.14640, 100=5.08200, 250=4.82792, 500=4.71900 (USD); Case/Package: TSSOP; Number of Pins: 20; Min Operating Temperature: -40°C; Max Operating Temperature: 125°C; Package Quantity: 74; Packaging: Rail/Tube; Termination: SMD/SMT; Max Supply Voltage: 24V; Radiation Hardening: No; REACH SVHC: No SVHC; ComponentLink1URL: https://datasheet.ciiva.com/15104/getdatasheetpartid-472813-15104438.pdf?src-supplier=Verical; ComponentLink1Description: https://datasheet.ciiva.com/15104/getdatasheetpartid-472813-15104438.pdf?src-supplier=Verical; ComponentLink2URL: https://datasheet.ciiva.com/31429/1692507-31429494.pdf?src-supplier=Farnell; ComponentLink2Description: https://datasheet.ciiva.com/31429/1692507-31429494.pdf?src-supplier=Farnell; ComponentLink3URL: https://datasheet.ciiva.com/1964/27024-1964843.pdf?src-supplier=Digi-Key; ComponentLink3Description: https://datasheet.ciiva.com/1964/27024-1964843.pdf?src-supplier=Digi-Key
footprint LT-FE-20-EPV-CB_L (SOP, 20-Leads, Body 6.6x4.5mm, Pitch 0.65mm, Thermal Pad 3.86x2.74mm, IPC High Density)
pins: 1 RVTRANS "Transformer Supply Sense Pin. Connect a resistor between the RVTRANS pin and the VTRANS supply. Refer to Table 2 for proper sizing of the RVTRANS resistor. The minimum operation voltage for VTRANS is 4.75V.", 2 UVLO1 "VTRANS Undervoltage Lockout Pin. Senses when VTRANS drops below: VUVLO1 = 1.225+ 50uA •RUVLO1 and trips the F\A\U\L\T\ latch low, disabling switching. After VTRANS rises above VUVLO1, toggling the CHARGE pin reactivate(See Datasheet)", 3 OVLO1 "VTRANS Overvoltage Lockout Pin. Senses when VTRANS rises above: VOVLO1 = 1.225+ 50uA •ROVLO1 and trips the F\A\U\L\T\ latch low, disabling switching. After VTRANS drops below VOVLO1, toggling the CHARGE pin reactivate(See Datasheet)", 4 UVLO2 "VCC Undervoltage Lockout Pin. Senses when VCC drops below: VUVLO2 = 1.225+ 50uA •RUVLO2 and trips the F\A\U\L\T\ latch low, disabling switching. After VCC rises above VUVLO2, toggling the CHARGE pin reactivates switching.", 5 OVLO2 "VCC Overvoltage Lockout Pin. Senses when VCC rises above: VOVLO2 = 1.225+ 50uA •ROVLO2 and trips the F\A\U\L\T\ latch low, disabling switching. After VCC drops below VOVLO2, toggling the CHARGE pin reactivates switching.", 6 ~{FAULT} "Open Collector Indication Pin. When either VTRANS or VCC exceeds the user-selected voltage range, or an internal UVLO condition occurs, a transistor turns on. The part will stop switching. This pin needs a proper pull-up (See Datasheet)", 7 ~{DONE} "Open Collector Indication Pin. When the target output voltage (charge mode) is reached or the F\A\U\L\T\ pin goes low, a transistor turns on. This pin needs a proper pull-up resistor or current source.", 8 CHARGE "Charge Pin. Initiates a new charge cycle (charge mode) or enables the part (regulation mode) when driven higher than 1.5V. Bring this pin below 0.3V to discontinue charging and put the part into shutdown. Turn-on ramp rates (See Datasheet)", 9 CLAMP "Internal Clamp Voltage Selection Pin. Tie this pin to VCC to activate the internal 5.6V gate driver clamp. Tie this pin to ground to activate the internal 10.5V gate driver clamp.", 10 FB "Feedback Regulation Pin. Use this pin to achieve low noise voltage regulation. FB is internally regulated to 1.22V when a resistive divider is tied from this pin to the output. FB pin should not float. Tie FB pin to either a (See Datasheet)", 11 CSN "Negative Current Sense Pin. Senses external NMOS source current. Connect to local RSENSE ground connection for proper Kelvin sensing. The current limit is set by 106mV/RSENSE.", 12 CSP "Positive Current Sense Pin. Senses NMOS source current. Connect the NMOS source terminal and the current sense resistor to this pin. The current limit is fixed at 106mV/RSENSE in charge mode. The current limit can be reduced (See Datasheet)", 13 VCC "Input Supply Pin. Must be locally bypassed with high grade (X5R or better) ceramic capacitor. The minimum operating voltage for VCC is 4.75V.", 14 LVGATE "Low Voltage Gate Pin. Connect the NMOS gate terminal to this pin when operating VCC below 8V. The internal gate driver will drive the voltage to the VCC rail. When operating VCC higher than 8V, tie this pin directly to VCC.", 15 HVGATE "High Voltage Gate Pin. Connect NMOS gate terminal to this pin for all VCC operating voltages. Internal gate driver will drive the voltage to within VCC -2V during each switch cycle.", 16 RBG "Bias Generation Pin. Generates a bias current set by 0.98V/RBG. Select RBG to achieve desired resistance for RDCM, RVOUT, and RVTRANS.", 17 NC "No Connection.", 18 RVOUT "Output Voltage Sense Pin. Develops a current proportional to the output capacitor voltage.", 19 NC "No Connection.", 20 RDCM "Discontinuous Mode Sense Pin. Senses when the external NMOS drain is equal to 20uA ?RDCM + VTRANS and initiates the next switch cycle. Place a resistor equal to 0.45 times the resistor on the RVTRANS pin between this pi(See Datasheet)", 21 GND "Ground. Tie directly to local ground plane."

## LT3751IUFD#PBF
designator U?
Photoflash Capacitor Charger PMIC 20-QFN (4x5); Mfr_Name: Analog Devices / Linear Technology; Copyright: Copyright (C) 2021 Ultra Librarian. All rights reserved.; Manufacturer_Part_Number: lt3751iufd#pbf; Digi-Key_Part_Number_1: LT3751IUFD#PBF-ND; RefDes: RefDes; Type: DEV; Supplier 1: Digi-Key; Supplier 2: Arrow Electronics; Supplier 3: Mouser; Supplier Part Number 2: LT3751IUFD#PBF
footprint QFN-20_UFD_LIT
footprint QFN-20_UFD_LIT-L
footprint QFN-20_UFD_LIT-M
pins: 1 OVLO1, 2 UVLO2, 3 OVLO2, 4 *FAULT, 5 *DONE, 6 CHARGE, 7 CLAMP, 8 FB, 9 CSN, 10 CSP, 11 VCC (power), 12 LVGATE, 13 HVGATE, 14 RBG, 15 NC, 16 RV/OUT, 17 RDCM, 18 NC, 19 RV/TRANS, 20 UVLO1, 21 GND

## ltc4151ims#pbf
designator U?  Supplier Part Number 1: LTC4151IMS#PBF-ND
Power Supply Controller Power Supply Monitor 10-MSOP; Mfr_Name: Analog Devices / Linear Technology; Copyright: Copyright (C) 2021 Ultra Librarian. All rights reserved.; Manufacturer_Part_Number: ltc4151ims#pbf; Digi-Key_Part_Number_1: LTC4151IMS#PBF-ND; RefDes: RefDes; Type: DEV; Supplier 1: Digi-Key
footprint MSOP-10_MS_LIT
footprint MSOP-10_MS_LIT-L
footprint MSOP-10_MS_LIT-M
pins: 1 SENSE+ (in), 2 VIN (in), 3 ADR1 (in), 4 ADR0 (in), 5 ADIN (in), 6 SCL (in), 7 SDA (io), 8 *SHDN (in), 9 GND (power), 10 SENSE- (in)

## MAX 6682
designator U?  Supplier Part Number 1: MAX6682MUA+-ND
MAX 6685 Thermistor - SPI converter, 8bit; Supplier 1: Digi-Key
footprint 8-MSOP
pins: 1 NC, 2 R+, 3 R-, 4 GND, 5 nCS, 6 SO, 7 SCK, 8 VCC

## MC74LVX139DTR2G
designator U?, comment 2:4
2-3.6V Dual 2-to-8 Decoder; MF: onsemi; Package: TSSOP-16; Vin: 2-3.6V; Supplier: Mouser; Link: https://www.mouser.ca/ProductDetail/onsemi/MC74LVX139DTR2G?qs=YOLdObVcOZlxCYeV3EwYHQ%3D%3D
footprint TSSOP-16
pins: 1 *EA (in), 2 A0A (in), 3 A1A (in), 4 *Y0A (out), 5 *Y1A (out), 6 *Y2A (out), 7 *Y3A (out), 8 GND (power), 9 *Y3B (out), 10 *Y2B (out), 11 *Y1B (out), 12 *Y0B (out), 13 A1B (in), 14 A0B (in), 15 *EB (in), 16 VCC (power)

## MCP14A0454T-E/SN
designator U?  Supplier Part Number 1: MCP14A0454T-E/SNCT-ND  (hidden comment: *)
Low-Side Gate Driver IC Non-Inverting 8-SOIC; Supplier 1: Digi-Key
footprint 8-SOIC
pins: 1 ENA, 2 INA, 3 GND, 4 INB, 5 OUTB, 6 VDD, 7 OUTA, 8 ENB

## MOSFET AON6407
designator Q?, comment AON6407
MOSFET P-CH 30V 32A 8DFN; MF: Alpha & Omega Semiconductor Inc.; Package: 8-PowerSMD; MP: AON6407; Digikey: 785-1421-1-ND; Digikey Link: https://www.digikey.ca/product-detail/en/alpha-omega-semiconductor-inc/AON6407/785-1421-1-ND/3466800; Supplier 1: Digi-Key; Supplier Part Number 1: 785-1421-1-ND
footprint 8-PowerSMD
pins: D, G, S

## MOSFET BSC320N20NS3
designator Q?, comment BSC350N20NSFD
MOSFET N-CH 36A 200V; MF: Infineon; Package: 8-PowerTDFN; Digikey: BSC320N20NS3GATMA1CT-ND; Digikey Link: https://www.digikey.ca/en/products/detail/infineon-technologies/BSC320N20NS3GATMA1/2337851; Supplier 1: Digi-Key; Supplier Part Number 1: BSC320N20NS3GATMA1CT-ND
footprint 8-PowerSMD
pins: D, G, S

## MOSFET BSC0921NDI
designator U?
MOSFET N+N 30V 17A; MF: Infineon Technologies; MF P/N: BSC0921NDI; Supplier 1: Digi-Key; Supplier Part Number 1: BSC0921NDIATMA1CT-ND
footprint PG-TISON-8-2 (Infineon TISON Dual Mosfet Merged S1D2)
pins: D1, G1, G2, S1D2, S2

## MOSFET IPB80P03P4L-04
designator Q?, comment IPB80P03P4L-04
P-Channel 30 V 80A (Tc) 137W (Tc) Surface Mount PG-TO263-3-2; Manufacturer_Name: Infineon; Datasheet Link: https://componentsearchengine.com//IPB80P03P4L-04.pdf; Height: 4.5mm; Manufacturer_Part_Number: IPB80P03P4L-04; Mouser Part Number: 726-IPB80P03P4L-04; Mouser Price/Stock: https://www.mouser.co.uk/ProductDetail/Infineon-Technologies/IPB80P03P4L-04?qs=wK%252BoHS4yu562EimsoDeBJQ%3D%3D; Supplier 1: Mouser; Supplier Part Number 1: 726-IPB80P03P4L-04
footprint IPB80P03P4L04
pins: 1 G, 2 D, 3 S

## MOSFET IPD320N20N3GATMA1
designator Q?, comment IPD320N20N3GATMA1
MOSFET N-CH 34A 200V DPAK; MF: Infineon; Package: DPAK; Digikey: IPD320N20N3GATMA1CT-ND; Digikey Link: https://www.digikey.ca/en/products/detail/infineon-technologies/IPD320N20N3GATMA1/5823324; Supplier 1: Digi-Key; Supplier Part Number 1: IPD320N20N3GATMA1CT-ND
footprint DPAK (TO-252); pin to pad D>2 G>1 S>3
pins: D, G, S

## MOSFET N-CH 30V 18.5A
designator Q?, comment N-Channel  (value not drawn)
MOSFET N-CH 30V 18.5A 8-SOIC; MF: ON Semiconductor; MP: FDS8813NZ; Digikey: FDS8813NZCT-ND; Price: 1.727 CAD; Rating: 30V; Digikey Link: https://www.digikey.ca/product-detail/en/on-semiconductor/FDS8813NZ/FDS8813NZCT-ND/1626932; Package: 8-SOIC; Supplier 1: Digi-Key; Supplier Part Number 1: FDS8813NZCT-ND
footprint 8-SOIC MOSFET
pins: D, G, S

## MOSFET N-CH AO3162
designator Q?, comment AO3162
N-Channel 600 V 34mA (Ta) 1.39W (Ta) Surface Mount SOT-23A-3; MFG: Diodes Incorporated; Supplier: Digikey; Supplier PN: BSS127SSN-7DICT-ND
footprint SOT-23A-3
pins: 1 G, 2 S, 3 D

## MOSFET N-CH DUAL 40V 20A
designator U?, comment 40V 20A
MOSFET N+N 40V 20A; MF: Vishay Siliconix; MF P/N: Si7288DP; Supplier 1: Digi-Key; Supplier Part Number 1: SI7288DP-T1-GE3CT-ND
footprint PowerPAK SO8 Dual
pins: 1 S1, 2 G1, 3 S2, 4 G2, 6 D2, 8 D1

## MOSFET N-CH DUAL NTTFD4D0N04HLTWG
designator Q?, comment N-CH Dual SW Node
MOSFET N+N COMMON PHASE SW 40V 60A; Manufacturer: ON Semiconductor; Manufacturer Part Number: NTTFD4D0N04HLTWG; Supplier 1: Digi-Key; RoHS: Yes; Category: MOSFETs; Stock 1: 3000; Pricing 1: 1=1.51000, 10=1.34800, 100=1.05120, 500=0.86840, 1000=0.72712 (USD); Supplier Part Number 1: 488-NTTFD4D0N04HLTWGCT-ND
footprint 12-PowerWQFN (MOSFET DUAL SWITCHING N CHANNEL)
pins: 1 GND (power), 2 LSG (in), 3 V+ (power), 4 V+ (power), 5 V+ (power), 7 HSG (in), 8 SW (out), 11 GND (power)

## MOSFET N-CH FDB52N20TM
designator Q?, comment FDB52N20TM
N-Channel 200 V 52A (Tc) 357W (Tc) Surface Mount D²PAK (TO-263); Supplier 1: Digi-Key; Supplier Part Number 1: FDB52N20TMCT-ND
footprint D2PAK (TO-263) (2)
pins: 1 G, 2 D, 3 S

## MOSFET N-CH STD16N65M2
designator Q?, comment STD16N65M2
N-Channel 650 V 11A (Tc) 110W (Tc) Surface Mount DPAK; MFG: STMicroelectronics; Supplier: Digikey; Supplier PN: 497-16925-1-ND; Supplier 1: Digi-Key; Supplier Part Number 1: 497-15258-1-ND
footprint DPAK (TO-252)
pins: 1 G, 2 D, 3 S

## MOSFET N-CH TN2130K1-G
designator Q?, comment TN2130K1-G
N-Channel 300 V 85mA (Tj) 360mW (Tc) Surface Mount TO-236AB (SOT23); Mfr_Name: Microchip; Type: DEV; Copyright: Copyright (C) 2021 Ultra Librarian. All rights reserved.; Manufacturer_Part_Number: TN2130K1-G; Digi-Key_Part_Number_1: TN2130K1-GCT-ND; Digi-Key_Part_Number_2: TN2130K1-GDKR-ND; Digi-Key_Part_Number_3: TN2130K1-GTR-ND; RefDes: RefDes; Supplier 1: Digi-Key; Supplier Part Number 1: TN2130K1-GCT-ND
footprint SOT95P237X112-3N
pins: 1 G, 2 S, 3 D

## MOSFET P-CH DUAL AOSD21311C
designator Q?, comment AOSD21311C
Mosfet Array 2 P-Channel (Dual) 30V 5A (Ta) 1.7W Surface Mount 8-SOIC; Supplier 1: Digi-Key; Supplier Part Number 1: 785-AOSD21311CCT-ND
footprint 8-SOIC
pins: 1 S2, 2 G2, 3 S1, 4 G1, 5 D1, 6 D1, 7 D2, 8 D2

## MOSFET SI4425DDY-T1-GE3
designator Q?, comment SI4425DDY-T1-GE3
P-Channel 30V 19.7A (Tc) 2.5W (Ta), 5.7W (Tc) Surface Mount 8-SO; MF: ON Semiconductor; Package: 8-SOIC; MP: SI4425DDY-T1-GE3; ComponentLink1Description: digikey; ComponentLink1URL: https://www.digikey.ca/en/products/detail/vishay-siliconix/SI4425DDY-T1-GE3/2622187; Digikey: SI4425DDY-T1-GE3CT-ND; Digikey Link: https://www.digikey.ca/product-detail/en/vishay-siliconix/SI4425DDY-T1-GE3/SI4425DDY-T1-GE3CT-ND/3305378
footprint 8-SOIC MOSFET
pins: D, G, S

## MOUNTING HOLE
designator M?, comment c556h362  (no BOM)
Mounting Hole, Plated, Through Hole, Via 5.557mm, Hole 3.618mm; Hole Size: 3.618mm; Via Size: 5.557mm
footprint Mounting Hole c556h362
pins: 1

## N-BJT BCP54
designator *
TRANS NPN 45V 1A SOT223; MF: Nexperia; MP: BCP54; Digikey PN: 1727-1531-1-ND; Supplier 1: Digi-Key; Supplier Part Number 1: 1727-1531-1-ND
footprint SOT-23 (3)
pins: 1 B, 2 C, 3 E

## NetTie
designator NT?  (value not drawn)  (net tie, no BOM)
Combines 2 nets
footprint NET_TIE-12 (12mil patch for net tie.)
pins: 1, 2

## NT_8
designator NT?, comment 8mil Nettie
8mil wide nettie
footprint NT_8mil (8mil wide nettie)
pins: 1, 2

## NTC
designator R?, comment Thermistor 100k
Value: 0; Package: 0805
pins: 1 R1, 2 R2

## ODIN-W262
designator *
Supplier 1: Digi-Key; Supplier Part Number 1: 672-1017-6-ND
footprint ODIN-W262
part A pins: A1 ~{RESET} (in), A5 UART_DTR (out), A6 ~{SWITCH_0} (in), A7 RED (out), A8 GREEN/!SWITCH_1 (io), A9 BLUE (out), A10 ~{UART_CTS} (in), A11 UART_TXD (out), A12 ~{UART_RTS} (out), A13 UART_RXD (in), A18 UART_DSR (in), C14 RMII_MDC (out), C15 RMII_MDIO (io), C16 LPO_CLK (in), D1 RMII_TXD0 (out), D2 RMII_TXD1 (out), D3 RMII_TXEN (out), D4 RMII_CRSDV (in), D5 RMII_RXD0 (in), D6 RMII_RXD1 (in), D8 RMII_REFCLK (in)
part B pins: 1 GND@7 (power), 2 GND@8 (power), 3 GND@9 (power), 4 GND@10 (power), 5 GND@11 (power), 6 GND@12 (power), 7 GND@13 (power), 8 GND@14 (power), 9 GND@15 (power), 10 GND@16 (power), 11 GND@17 (power), 12 GND@18 (power), 13 GND@19 (power), 14 GND@20 (power), 15 GND@21 (power), 16 GND@22 (power), 17 GND@23 (power), 18 GND@24 (power), 19 GND@25 (power), 20 GND@26 (power), 21 GND@27 (power), 22 GND@28 (power), 23 GND@29 (power), 24 GND@30 (power), 25 GND@31 (power), 26 GND@32 (power), 27 GND@33 (power), 28 GND@34 (power), 29 GND@35 (power), 30 GND@36 (power), 31 GND@37 (power), 32 GND@38 (power), 33 GND@39 (power), 34 GND@40 (power), 35 GND@41 (power), 36 GND@42 (power), 37 GND@43 (power), 38 GND@44 (power), 39 GND@45 (power), A2 V_INT (power), A3 GND@1 (power), A4 VCC (power), A14 NC@1 (in), A15 NC@2 (in), A16 NC@3 (in), A17 NC@4 (in), B1 NC@5 (in), B2 NC@6 (in), B3 NC@7 (in), B4 NC@8 (in), B5 NC@9 (in), B6 NC@10 (in), B7 NC@11 (in), B8 NC@12 (in), C1 GND@2 (power), C2 NC@13 (in), C3 GND@3 (power), C4 GND@4 (power), C5 NC@14 (in), C6 NC@15 (in), C7 GND@5 (power), C8 NC@16 (in), C9 NC@17 (in), C10 NC@18 (in), C11 NC@19 (in), C12 NC@20 (in), C13 NC@21 (in), C17 NC@22 (in), C18 NC@23 (in), D7 GND@6 (power), TP1 TEST_PAD1 (in), TP2 TEST_PAD2 (in), TP3 TEST_PAD3 (in), TP4 TEST_PAD4 (in), TP5 TEST_PAD5 (in), TP6 TEST_PAD6 (in), TP7 TEST_PAD7 (in), TP8 TEST_PAD8 (in), TP9 TEST_PAD9 (in), TP10 TEST_PAD10 (in), TP11 TEST_PAD11 (in), TP12 TEST_PAD12 (in)

## OP AMP CURR SENSE BI
designator U?  (value not drawn)
SP Amp Current Sense Amp Single R-R O/P 5.5V Automotive 6-Pin SC-70 T/R; Manufacturer: Texas Instruments; Manufacturer Part Number: INA186A2QDCKRQ1; Supplier 1: Digi-Key; RoHS: Yes; Category: Amplifiers - Op Amps, Buffer, Instrumentation; Stock 1: 2843; Pricing 1: 1=1.73000, 10=1.54500, 25=1.46600, 100=1.20440, 250=1.12584, 500=0.99492, 1000=0.86450 (USD); Supplier Part Number 1: 296-INA186A2QDCKRQ1CT-ND
footprint SC70-6 (Current Sense Amp Footprint)
pins: 1 REF (in), 2 GND (power), 3 VS (power), 4 IN+ (in), 5 IN- (in), 6 OUT (out)

## OP AMP CURR SENSE BI TSC
designator U?  (value not drawn)
SP Amp Current Sense Amp Single R-R O/P 5.5V Automotive 6-Pin SC-70 T/R; Manufacturer: STMicroelectronics; Manufacturer Part Number: TSC214ICT; RoHS: Yes; Stock 1: 2727; Pricing 1: 1=1.45000, 10=1.29500, 25=1.22920, 100=1.00980, 250=0.94396, 500=0.83420, 1000=0.72485 (USD); Supplier 1: Digi-Key; Supplier Part Number 1: 497-TSC214ICT-ND
footprint SC70-6 (Current Sense Amp Footprint)
pins: 1 REF (in), 2 GND (power), 3 VS (power), 4 IN+ (in), 5 IN- (in), 6 OUT (out)

## OP AMP DUAL
designator U?
IC OPAMP VFB 50KHZ RRO 8MSOP; Manufacturer: Analog Devices; Manufacturer Part Number: ADA4505-2ARMZ; Common Mode Rejection Ratio: 105dB; Max Supply Voltage: 5V; Min Supply Voltage: 1.8V; Max Dual Supply Voltage: 2.5V; Min Dual Supply Voltage: 900mV; Voltage Gain: 120dB; Operating Supply Voltage: 3V; Slew Rate: 0.006V/µs; Input Offset Voltage (Vos): 3mV; Input Bias Current: 0.5pA; Operating Supply Current: 14uA; Number of Channels: 2; Power Supply Rejection Ratio (PSRR): 110dB; Output Current per Channel: 40mA; Quiescent Current: 7uA; Input Capacitance: 4.7pF; Supply Type: Single,Dual; RoHS: Yes; Category: Amplifiers - Op Amps, Buffer, Instrumentation; Stock 1: 767; Case/Package: MSOP; Number of Pins: 8; Contact Plating: Tin,Matte; Min Operating Temperature: -40°C; Max Operating Temperature: 125°C; Gain Bandwidth Product: 50kHz; Packaging: Rail/Tube; Package Quantity: 50; Unity Gain Bandwidth Product: 50kHz; Number of Circuits: 2; Number of Elements: 2; Number of Amplifiers: 2; Max Input Voltage: 5V; Nominal Supply Current: 7uA; Bandwidth: 50kHz; Length: 3.2mm; Width: 3.2mm; Height: 0.95mm; Lead Free: Contains Lead; REACH SVHC: No SVHC; ComponentLink1URL: https://datasheet.ciiva.com/24017/ada4505-1-4505-2-4505-4-249280-24017665.pdf?src-supplier=Mouser; ComponentLink1Description: https://datasheet.ciiva.com/24017/ada4505-1-4505-2-4505-4-249280-24017665.pdf?src-supplier=Mouser; ComponentLink2URL: https://datasheet.ciiva.com/2974/ada4505-1-4505-2-4505-4-2974772.pdf?src-supplier=Avnet; ComponentLink2Description: https://datasheet.ciiva.com/2974/ada4505-1-4505-2-4505-4-2974772.pdf?src-supplier=Avnet; ComponentLink3URL: https://datasheet.ciiva.com/17569/ada4505-1-4505-2-4505-4-17569270.pdf?src-supplier=Avnet+Europe; ComponentLink3Description: https://datasheet.ciiva.com/17569/ada4505-1-4505-2-4505-4-17569270.pdf?src-supplier=Avnet+Europe; ComponentLink4URL: https://datasheet.ciiva.com/1805/ada4505-1-4505-2-4505-4-1805784.pdf?src-supplier=Digi-Key; ComponentLink4Description: https://datasheet.ciiva.com/1805/ada4505-1-4505-2-4505-4-1805784.pdf?src-supplier=Digi-Key; Digikey: ADA4505-2ARMZ-ND
footprint 8-MSOP
pins: 1 OUTA (out), 2 INA- (in), 3 INA+ (in), 4 V- (power), 5 INB+ (in), 6 INB- (in), 7 OUTB (out), 8 V+ (power)

## OP AMP MCP6231UT-E/OT
designator U?, comment MCP6231UT-E/OT
General Purpose Amplifier 1 Circuit Rail-to-Rail SOT-23-5; Mfr_Name: Microchip; Copyright: Copyright (C) 2021 Ultra Librarian. All rights reserved.; Manufacturer_Part_Number: MCP6231UT-E/OT; Digi-Key_Part_Number_1: MCP6231UT-E/OTCT-ND; Digi-Key_Part_Number_2: MCP6231UT-E/OTDKR-ND; Digi-Key_Part_Number_3: MCP6231UT-E/OTTR-ND; RefDes: RefDes; Type: DEV; Supplier 1: Digi-Key; Supplier Part Number 1: MCP6231UT-E/OTCT-ND
footprint SOT-23-5_MC_MCH-L
pins: 1 IN+ (hiz), 2 V- (power), 3 IN- (hiz), 4 OUT, 5 V+ (power)
text: +; -

## OP AMP MIC7300YM5-TR
designator U?, comment MIC7300YM5-TR  Supplier Part Number 1: 576-1319-1-ND
IC OPAMP GP 1 CIRCUIT SOT23-5; Manufacturer: Microchip; Voltage Gain: 300-340V/mV; Gain Bandwidth: 0.55MHz; Min Supply Voltage: 2.2V; Max Junction Temp: +85°C; Input Bias Current: 0.0000005uA; Number Of Channels: 1; Input Offset Voltage: 1mV; Nominal Supply Current: 0.7-1.5mA; Max Supply Voltage: 10V; Standoff Height: 0mm; Mouser Description: Operational Amplifiers - Op Amps; Height: 1.45mm; Footprint Url: https://ww1.microchip.com/downloads/en/PackagingSpec/00000049CH.pdf; Temperature: -40°C to +85°C; Package: SOT23-5LD-PL-1; Automotive: No; Temperature Range High: +85°C; ComponentLink2URL: http://www.microchip.com/mymicrochip/filehandler.aspx?ddocname=en580613; Device Class L2: Linear ICs; Lead Free: Yes; ComponentLink2Description: Datasheet; Digikey Description: IC OPAMP GP 1 CIRCUIT SOT23-5; Device Class L3: Amplifiers - Op Amps; Manufacturer Part Number: MIC7300YM5-TR; Temperature Range Low: -40°C; Category: IC; RoHS: TRUE; Octopart: https://octopart.com/mic7300ym5-tr-microchip-66803593; Device Class L1: Integrated Circuits (ICs); Supplier 1: Digi-Key
footprint FP-SOT23-5LD-PL-1-IPC_A
footprint FP-SOT23-5LD-PL-1-IPC_B
footprint FP-SOT23-5LD-PL-1-IPC_C
footprint FP-SOT23-5LD-PL-1-MFG
pins: 1 OUT (out), 2 V- (power), 3 IN+ (hiz), 4 IN- (hiz), 5 V+ (power)
text: -

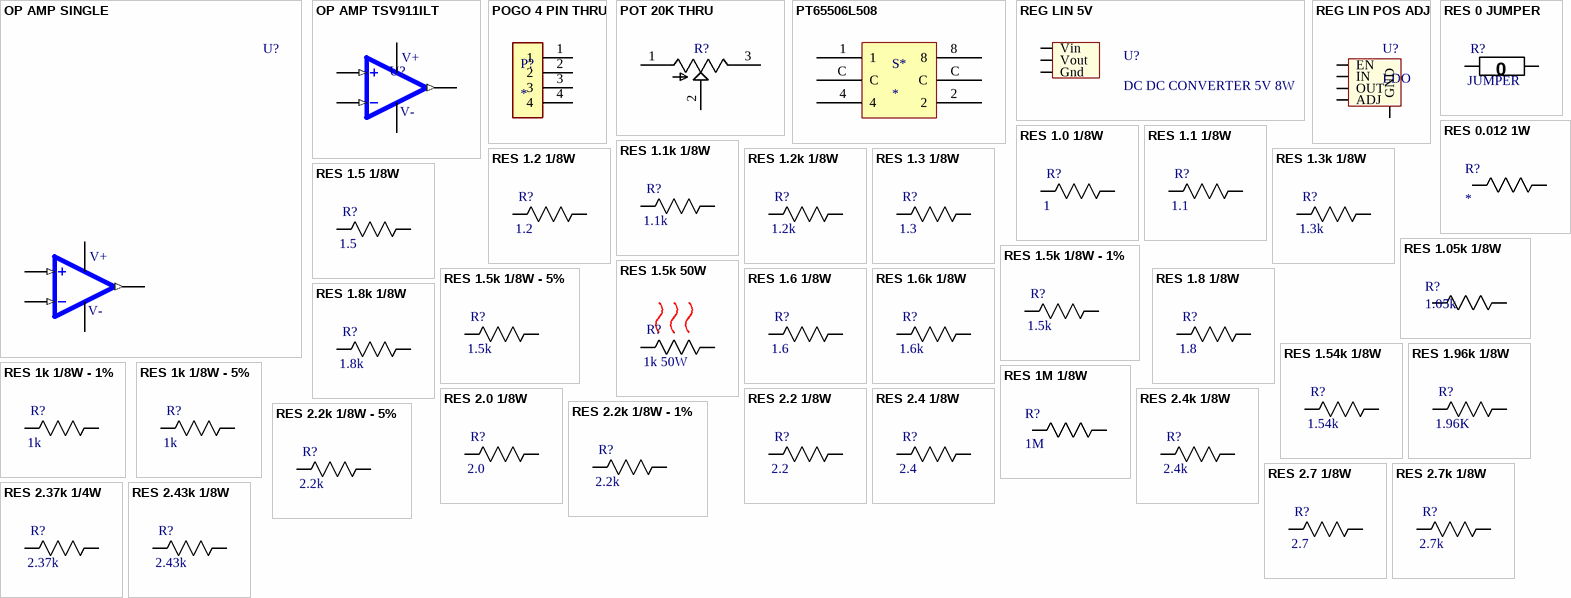
[diagram p8: symbols OP AMP SINGLE to RES 2.43k 1/8W]

## OP AMP SINGLE
designator U?
ANALOG DEVICES - ADA4505-1ARJZ-R7 - IC, AMPLIF. OPER., R-R, CMOS, SOT23-5; Min Supply Voltage: 1.8V; Max Supply Voltage: 5V; Min Dual Supply Voltage: 900mV; Max Dual Supply Voltage: 2.5V; Voltage Gain: 120dB; Common Mode Rejection Ratio: 105dB; Gain Bandwidth Product: 50kHz; Slew Rate: 0.006V/µs; Operating Supply Voltage: 3V; Number of Circuits: 1; Input Bias Current: 500nA; Input Offset Voltage (Vos): 3mV; Operating Supply Current: 9uA; Output Current per Channel: 40mA; Power Supply Rejection Ratio (PSRR): 110dB; Input Capacitance: 4.7pF; Supplier 1: Digi-Key; Manufacturer: Analog Devices; Manufacturer Part Number: ADA4505-1ARJZ-R7; RoHS: Yes; Category: Amplifiers - Op Amps, Buffer, Instrumentation; Stock 1: 3416; Case/Package: SOT-23-5; Number of Pins: 5; Contact Plating: Tin,Matte; Min Operating Temperature: -40°C; Max Operating Temperature: 125°C; Bandwidth: 50kHz; Packaging: Tape and Reel; Package Quantity: 3000; Unity Gain Bandwidth Product: 50kHz; Number of Channels: 1; Number of Elements: 1; Number of Amplifiers: 1; Quiescent Current: 9uA; REACH SVHC: No SVHC; Lead Free: Contains Lead; ComponentLink1URL: https://datasheet.ciiva.com/22712/1610797-22712032.pdf?src-supplier=Element14; ComponentLink1Description: https://datasheet.ciiva.com/22712/1610797-22712032.pdf?src-supplier=Element14; ComponentLink2URL: https://datasheet.ciiva.com/23805/608874-23805844.pdf?src-supplier=Newark; ComponentLink2Description: https://datasheet.ciiva.com/23805/608874-23805844.pdf?src-supplier=Newark; ComponentLink3URL: https://datasheet.ciiva.com/1487/1610797-1487372.pdf?src-supplier=Element14; ComponentLink3Description: https://datasheet.ciiva.com/1487/1610797-1487372.pdf?src-supplier=Element14; Digikey: ADA4505-1ARJZ-R7CT-ND
footprint SOT95P280X145-5N
pins: 1 OUT (out), 2 V- (power), 3 IN+ (in), 4 IN- (in), 5 V+ (power)

## OP AMP TSV911ILT
designator U?  (value not drawn)
IC OPAMP GP 1 CIRCUIT SOT23-5; Manufacturer: STMicroelectronics; DK PN: 497-6000-1-ND; Manu PN: TSV911ILT; Vsupply: 2.5V ~ 5.5V; DK Link: https://www.digikey.ca/en/products/detail/stmicroelectronics/TSV911ILT/1578404
footprint TSV911ILT Opamp
pins: 1 OUT (out), 2 V- (power), 3 IN+ (in), 4 IN- (in), 5 V+ (power)

## POGO 4 PIN THRU
designator P?
4 pin POGO Holes 0.100" Pitch; ComponentLink1Description: POGO Pins; ComponentLink1URL: https://www.digikey.ca/en/products/detail/mill-max-manufacturing-corp/816-22-004-10-001101/6149707?utm_adgroup=Rectangular%20Connectors%20-%20Spring%20Loaded&utm_source=google&utm_medium=cpc&utm_campaign=Shopping_Product_Connectors%2C%20Interconnects&utm_term=&productid=6149707&gclid=CjwKCAjwyIKJBhBPEiwAu7zllx5RKB49Aiz1Tcq0lCLtxeAJbHB79ZaevgMe56kl4rzAjPwbrhvRoBoC1QsQAvD_BwE
footprint POGO 4 PIN THRU
pins: 1, 2, 3, 4